# Altium footprint library CAP_550V_470uF.PcbLib: 1 footprints
Each footprint in its own frame and in the unit in brackets; x right, y up, seen from the top. Pads: shape width x height; smd on the part's side, far side on the other; paste and mask are expansions set on the pad; w line width, h text height; cw(c..) or ccw(c..) is an arc to the next point about the centre after c.
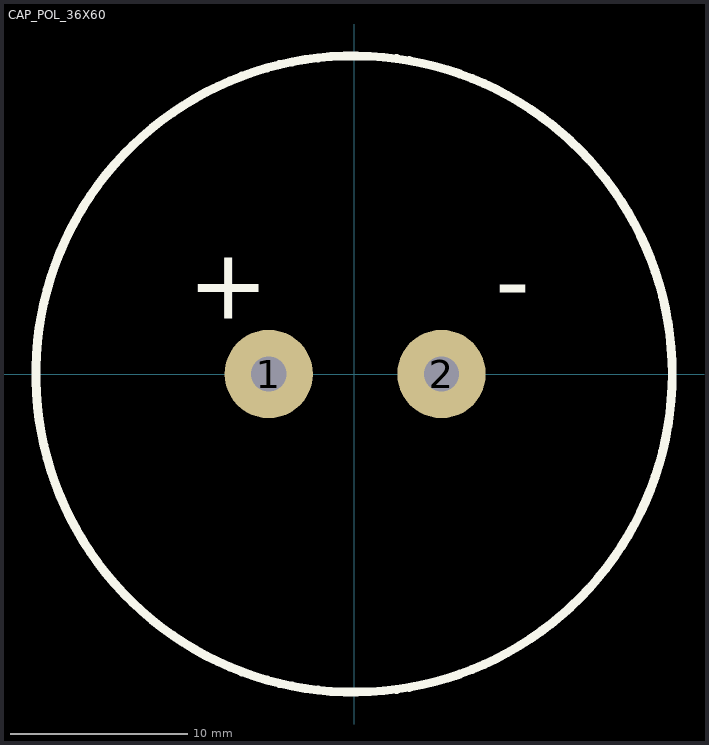
[diagram p0: the footprint, top view; thin cyan lines are the x and y axes]

## CAP_POL_36X60 [mm]
pads (2):
  round 5 hole 2: 1(-4.826,0) 2(4.953,0)
Top Overlay:
  circle w0.5: c0,0 r18
  text "-" at 7.993,3.327 h4
  text "+" at -9.406,3.136 h4
3D body "nichicon 470uF 550V.STEP": height 62.85, standoff -3.65, extent -17.85,-17.85 17.85,17.86